# Altium footprint library R0805.PcbLib: 1 footprints
Each footprint in its own frame and in the unit in brackets; x right, y up, seen from the top. Pads: shape width x height; smd on the part's side, far side on the other; paste and mask are expansions set on the pad; w line width, h text height; cw(c..) or ccw(c..) is an arc to the next point about the centre after c.
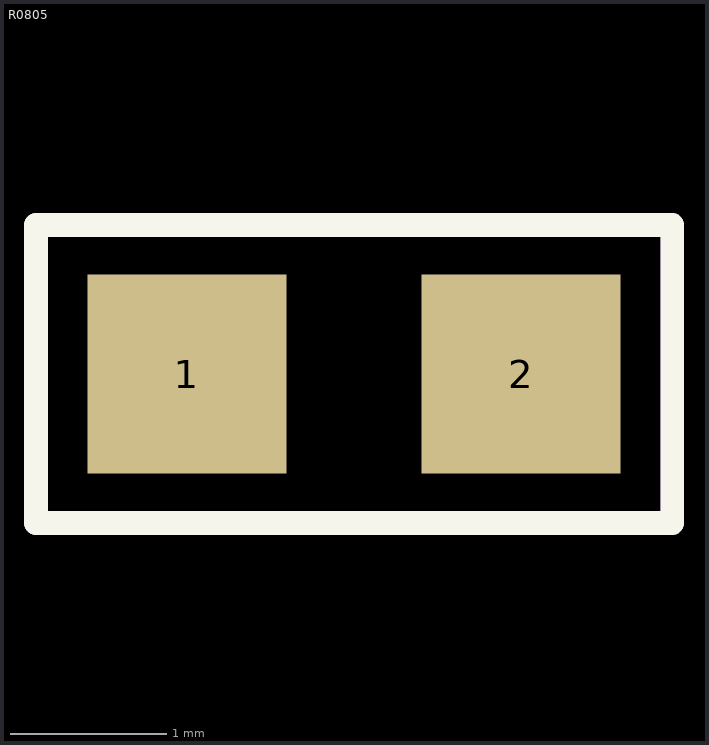
[diagram p0: the footprint, top view; thin cyan lines are the x and y axes]

## R0805 [mil]
pads (2):
  rect 50x50 smd: 1(386,220) 2(470,220)
Top Overlay:
  lines w6: 348,182.5 508,182.5 508,257.5 348,257.5 348,182.5
Mechanical 2:
  lines w6: 348,182.5 508,182.5 508,257.5 348,257.5 348,182.5